# EAGLE library part ENS160-BGLM (library ENS160-BGLM)
Air Quality Sensors ENS160-BGLM LGA9 T&R 500 Source: Datasheet <https://www.sciosense.com/wp-content/uploads/documents/SC-001224-DS-6-ENS160-Datasheet-Version-1.0-1.pdf>
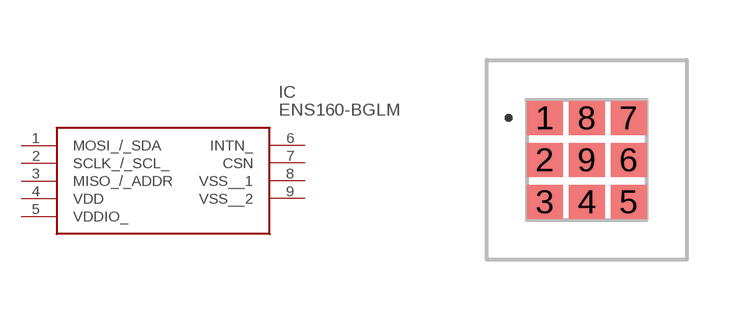
[diagram p0: symbol with the pads of ENS160BGLM; footprint ENS160BGLM]

Designator prefix IC

## ENS160-BGLM (Description: Air Quality Sensors ENS160-BGLM LGA9 T&R 500; Height: 0.9mm; Manufacturer_Name: ScioSense; Manufacturer_Part_Number: ENS160-BGLM; Mouser_Part_Number: 135-ENS160-BGLM; Mouser_Price-Stock: https://www.mouser.co.uk/ProductDetail/ScioSense/ENS160-BGLM?qs=DRkmTr78QAQKsjT0z3MHoA%3D%3D)  [ENS160BGLM]
1  MOSI_/_SDA
2  SCLK_/_SCL_
3  MISO_/_ADDR
4  VDD
5  VDDIO_
6  INTN_
7  CSN
8  VSS__1
9  VSS__2

## Footprint ENS160BGLM (pad centres in mm)
9-pin LGA_2022
smd 0.9 x 0.85: 1 -1.05,1.05; 2 -1.05,0; 3 -1.05,-1.05; 4 0,-1.05; 5 1.05,-1.05; 6 1.05,0; 7 1.05,1.05; 8 0,1.05; 9 0,0